# Altium footprint library UKT1H0R1MDD1TD.PcbLib: 1 footprints
Each footprint in its own frame and in the unit in brackets; x right, y up, seen from the top. Pads: shape width x height; smd on the part's side, far side on the other; paste and mask are expansions set on the pad; w line width, h text height; cw(c..) or ccw(c..) is an arc to the next point about the centre after c.
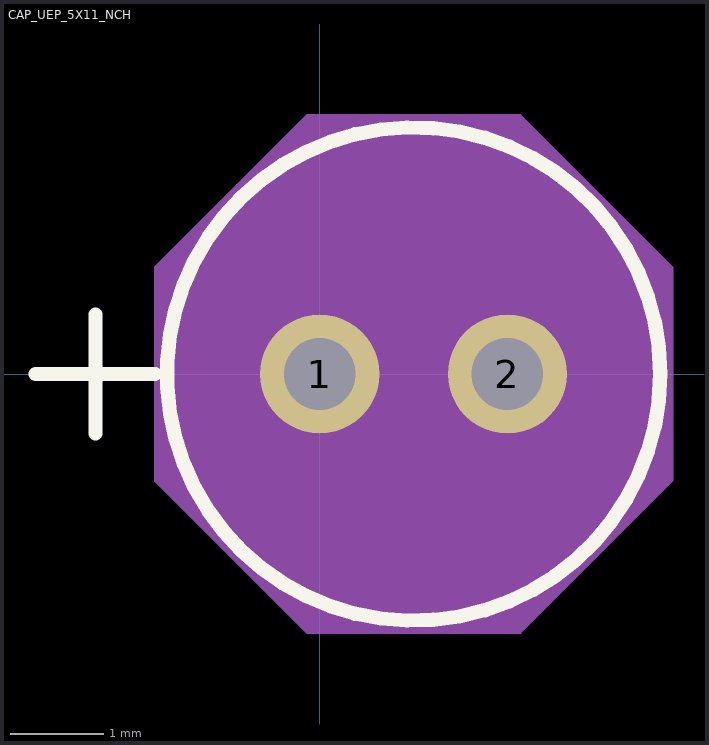
[diagram p0: the footprint, top view; thin cyan lines are the x and y axes]

## CAP_UEP_5X11_NCH [mil]
pads (2):
  round 50 / inner round 60 / far side round 50 hole 30 paste-25 mask+0: 1(0,0) 2(78.74,0)
Top Overlay:
  circle w6: c39.37,0 r103.5
  lines w6: -119.13,0 -69.13,0 ; -94.13,-25 -94.13,25
Mechanical 13:
  circle w0: c39.37,0 r98.5
  lines w1: -119.13,0 -69.13,0 ; -94.13,-25 -94.13,25
Mechanical 15:
  region: -69.13,44.68 -5.31,108.5 84.05,108.5 147.87,44.68 147.87,-44.68 84.05,-108.5 -5.31,-108.5 -69.13,-44.68
  lines w1: -69.13,-44.68 -5.31,-108.5 84.05,-108.5 147.87,-44.68 147.87,44.68 84.05,108.5 -5.31,108.5 -69.13,44.68 -69.13,-44.68
3D body "CAP_UEP_5X11_NCH.step": height 492.6, standoff -160, extent -59.13,-98.5 139.06,98.5